# Altium integrated library Oscillator - MEMS.IntLib: 171 symbols (part 3 of 3)
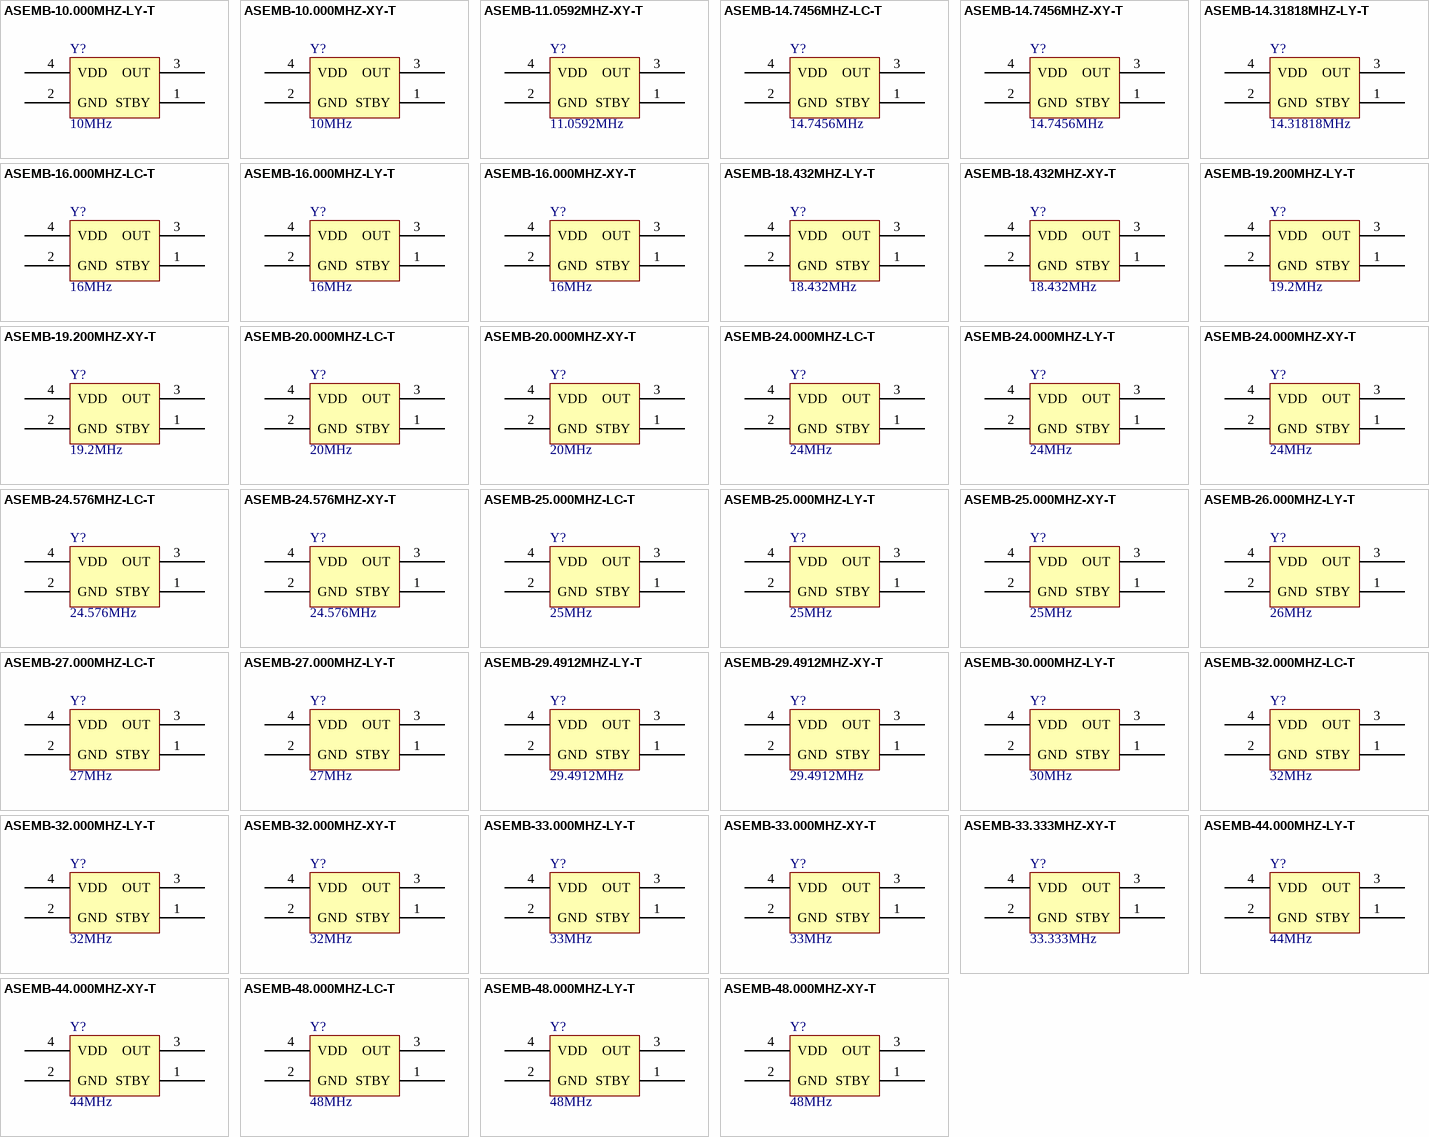
[diagram p6: symbols ASEMB-10.000MHZ-LY-T to ASEMB-48.000MHZ-XY-T]

## ASEMB-27.000MHZ-LY-T
designator Y?, comment 27MHz
OSC MEMS 27.000MHZ CMOS SMD; Part Number: ASEMB-27.000MHZ-LY-T; Manufacturer: Abracon LLC; Frequency Stability: 10ppm; PartId: 9046; Supplier 1: Digi-Key; Supplier Part Number 1: 535-11095-2-ND; ComponentLink1Description: Datasheet; ComponentLink1URL: http://www.abracon.com/Oscillators/ASEMB.pdf; ComponentLink2Description: Digi-Key Listing; ComponentLink2URL: https://www.digikey.com/product-detail/en/ASEMB-27.000MHZ-LY-T/535-11095-2-ND/2623901; Price: 1.2537; Type: MEMS (Silicon); Device Package: 4-SMD, No Lead (DFN, LCC); Series: Pure Silicon™ ASEMB; Frequency: 27MHz
footprint ABRACON ASEMB
pins: 1 STBY, 2 GND, 3 OUT, 4 VDD

## ASEMB-29.4912MHZ-LY-T
designator Y?, comment 29.4912MHz
OSC MEMS 29.4912MHZ CMOS SMD; Part Number: ASEMB-29.4912MHZ-LY-T; Manufacturer: Abracon LLC; Frequency Stability: 10ppm; PartId: 9041; Supplier 1: Digi-Key; Supplier Part Number 1: 535-11096-2-ND; ComponentLink1Description: Datasheet; ComponentLink1URL: http://www.abracon.com/Oscillators/ASEMB.pdf; ComponentLink2Description: Digi-Key Listing; ComponentLink2URL: https://www.digikey.com/product-detail/en/ASEMB-29.4912MHZ-LY-T/535-11096-2-ND/2623903; Price: 1.2537; Type: MEMS (Silicon); Device Package: 4-SMD, No Lead (DFN, LCC); Series: Pure Silicon™ ASEMB; Frequency: 29.4912MHz
footprint ABRACON ASEMB
pins: 1 STBY, 2 GND, 3 OUT, 4 VDD

## ASEMB-29.4912MHZ-XY-T
designator Y?, comment 29.4912MHz
OSC MEMS 29.4912MHZ CMOS SMD; Part Number: ASEMB-29.4912MHZ-XY-T; Manufacturer: Abracon LLC; Frequency Stability: 10ppm; PartId: 9066; Supplier 1: Digi-Key; Supplier Part Number 1: 535-11128-2-ND; ComponentLink1Description: Datasheet; ComponentLink1URL: http://www.abracon.com/Oscillators/ASEMB.pdf; ComponentLink2Description: Digi-Key Listing; ComponentLink2URL: https://www.digikey.com/product-detail/en/ASEMB-29.4912MHZ-XY-T/535-11128-2-ND/2623904; Price: 1.4012; Type: MEMS (Silicon); Device Package: 4-SMD, No Lead (DFN, LCC); Series: Pure Silicon™ ASEMB; Frequency: 29.4912MHz
footprint ABRACON ASEMB
pins: 1 STBY, 2 GND, 3 OUT, 4 VDD

## ASEMB-30.000MHZ-LY-T
designator Y?, comment 30MHz
OSC MEMS 30.000MHZ CMOS SMD; Part Number: ASEMB-30.000MHZ-LY-T; Manufacturer: Abracon LLC; Frequency Stability: 10ppm; PartId: 9042; Supplier 1: Digi-Key; Supplier Part Number 1: 535-11098-2-ND; ComponentLink1Description: Datasheet; ComponentLink1URL: http://www.abracon.com/Oscillators/ASEMB.pdf; ComponentLink2Description: Digi-Key Listing; ComponentLink2URL: https://www.digikey.com/product-detail/en/ASEMB-30.000MHZ-LY-T/535-11098-2-ND/2623907; Price: 1.2537; Type: MEMS (Silicon); Device Package: 4-SMD, No Lead (DFN, LCC); Series: Pure Silicon™ ASEMB; Frequency: 30MHz
footprint ABRACON ASEMB
pins: 1 STBY, 2 GND, 3 OUT, 4 VDD

## ASEMB-32.000MHZ-LC-T
designator Y?, comment 32MHz
OSC MEMS 32.000MHZ CMOS SMD; Part Number: ASEMB-32.000MHZ-LC-T; Manufacturer: Abracon LLC; Frequency Stability: 50ppm; PartId: 9038; Supplier 1: Digi-Key; Supplier Part Number 1: 535-11754-2-ND; ComponentLink1Description: Datasheet; ComponentLink1URL: http://www.abracon.com/Oscillators/ASEMB.pdf; ComponentLink2Description: Digi-Key Listing; ComponentLink2URL: https://www.digikey.com/product-detail/en/ASEMB-32.000MHZ-LC-T/535-11754-2-ND/2810016; Price: 0.69; Type: MEMS (Silicon); Device Package: 4-SMD, No Lead (DFN, LCC); Series: Pure Silicon™ ASEMB; Frequency: 32MHz
footprint ABRACON ASEMB
pins: 1 STBY, 2 GND, 3 OUT, 4 VDD

## ASEMB-32.000MHZ-LY-T
designator Y?, comment 32MHz
OSC MEMS 32.000MHZ CMOS SMD; Part Number: ASEMB-32.000MHZ-LY-T; Manufacturer: Abracon LLC; Frequency Stability: 10ppm; PartId: 9033; Supplier 1: Digi-Key; Supplier Part Number 1: 535-11099-2-ND; ComponentLink1Description: Datasheet; ComponentLink1URL: http://www.abracon.com/Oscillators/ASEMB.pdf; ComponentLink2Description: Digi-Key Listing; ComponentLink2URL: https://www.digikey.com/product-detail/en/ASEMB-32.000MHZ-LY-T/535-11099-2-ND/2623909; Price: 1.2537; Type: MEMS (Silicon); Device Package: 4-SMD, No Lead (DFN, LCC); Series: Pure Silicon™ ASEMB; Frequency: 32MHz
footprint ABRACON ASEMB
pins: 1 STBY, 2 GND, 3 OUT, 4 VDD

## ASEMB-32.000MHZ-XY-T
designator Y?, comment 32MHz
OSC MEMS 32.000MHZ CMOS SMD; Part Number: ASEMB-32.000MHZ-XY-T; Manufacturer: Abracon LLC; Frequency Stability: 10ppm; PartId: 9062; Supplier 1: Digi-Key; Supplier Part Number 1: 535-11131-2-ND; ComponentLink1Description: Datasheet; ComponentLink1URL: http://www.abracon.com/Oscillators/ASEMB.pdf; ComponentLink2Description: Digi-Key Listing; ComponentLink2URL: https://www.digikey.com/product-detail/en/ASEMB-32.000MHZ-XY-T/535-11131-2-ND/2623910; Price: 1.4012; Type: MEMS (Silicon); Device Package: 4-SMD, No Lead (DFN, LCC); Series: Pure Silicon™ ASEMB; Frequency: 32MHz
footprint ABRACON ASEMB
pins: 1 STBY, 2 GND, 3 OUT, 4 VDD

## ASEMB-33.000MHZ-LY-T
designator Y?, comment 33MHz
OSC MEMS 33.000MHZ CMOS SMD; Part Number: ASEMB-33.000MHZ-LY-T; Manufacturer: Abracon LLC; Frequency Stability: 10ppm; PartId: 9040; Supplier 1: Digi-Key; Supplier Part Number 1: 535-11100-2-ND; ComponentLink1Description: Datasheet; ComponentLink1URL: http://www.abracon.com/Oscillators/ASEMB.pdf; ComponentLink2Description: Digi-Key Listing; ComponentLink2URL: https://www.digikey.com/product-detail/en/ASEMB-33.000MHZ-LY-T/535-11100-2-ND/2623911; Price: 1.2537; Type: MEMS (Silicon); Device Package: 4-SMD, No Lead (DFN, LCC); Series: Pure Silicon™ ASEMB; Frequency: 33MHz
footprint ABRACON ASEMB
pins: 1 STBY, 2 GND, 3 OUT, 4 VDD

## ASEMB-33.000MHZ-XY-T
designator Y?, comment 33MHz
OSC MEMS 33.000MHZ CMOS SMD; Part Number: ASEMB-33.000MHZ-XY-T; Manufacturer: Abracon LLC; Frequency Stability: 10ppm; PartId: 9052; Supplier 1: Digi-Key; Supplier Part Number 1: 535-11132-2-ND; ComponentLink1Description: Datasheet; ComponentLink1URL: http://www.abracon.com/Oscillators/ASEMB.pdf; ComponentLink2Description: Digi-Key Listing; ComponentLink2URL: https://www.digikey.com/product-detail/en/ASEMB-33.000MHZ-XY-T/535-11132-2-ND/2623912; Price: 1.4012; Type: MEMS (Silicon); Device Package: 4-SMD, No Lead (DFN, LCC); Series: Pure Silicon™ ASEMB; Frequency: 33MHz
footprint ABRACON ASEMB
pins: 1 STBY, 2 GND, 3 OUT, 4 VDD

## ASEMB-33.333MHZ-XY-T
designator Y?, comment 33.333MHz
OSC MEMS 33.333MHZ CMOS SMD; Part Number: ASEMB-33.333MHZ-XY-T; Manufacturer: Abracon LLC; Frequency Stability: 10ppm; PartId: 9054; Supplier 1: Digi-Key; Supplier Part Number 1: 535-11111-2-ND; ComponentLink1Description: Datasheet; ComponentLink1URL: http://www.abracon.com/Oscillators/ASEMB.pdf; ComponentLink2Description: Digi-Key Listing; ComponentLink2URL: https://www.digikey.com/product-detail/en/ASEMB-33.333MHZ-XY-T/535-11111-2-ND/2623914; Price: 1.4012; Type: MEMS (Silicon); Device Package: 4-SMD, No Lead (DFN, LCC); Series: Pure Silicon™ ASEMB; Frequency: 33.333MHz
footprint ABRACON ASEMB
pins: 1 STBY, 2 GND, 3 OUT, 4 VDD

## ASEMB-44.000MHZ-LY-T
designator Y?, comment 44MHz
OSC MEMS 44.000MHZ CMOS SMD; Part Number: ASEMB-44.000MHZ-LY-T; Manufacturer: Abracon LLC; Frequency Stability: 10ppm; PartId: 9047; Supplier 1: Digi-Key; Supplier Part Number 1: 535-11102-2-ND; ComponentLink1Description: Datasheet; ComponentLink1URL: http://www.abracon.com/Oscillators/ASEMB.pdf; ComponentLink2Description: Digi-Key Listing; ComponentLink2URL: https://www.digikey.com/product-detail/en/ASEMB-44.000MHZ-LY-T/535-11102-2-ND/2623917; Price: 1.2537; Type: MEMS (Silicon); Device Package: 4-SMD, No Lead (DFN, LCC); Series: Pure Silicon™ ASEMB; Frequency: 44MHz
footprint ABRACON ASEMB
pins: 1 STBY, 2 GND, 3 OUT, 4 VDD

## ASEMB-44.000MHZ-XY-T
designator Y?, comment 44MHz
OSC MEMS 44.000MHZ CMOS SMD; Part Number: ASEMB-44.000MHZ-XY-T; Manufacturer: Abracon LLC; Frequency Stability: 10ppm; PartId: 9060; Supplier 1: Digi-Key; Supplier Part Number 1: 535-11134-2-ND; ComponentLink1Description: Datasheet; ComponentLink1URL: http://www.abracon.com/Oscillators/ASEMB.pdf; ComponentLink2Description: Digi-Key Listing; ComponentLink2URL: https://www.digikey.com/product-detail/en/ASEMB-44.000MHZ-XY-T/535-11134-2-ND/2623918; Price: 1.4012; Type: MEMS (Silicon); Device Package: 4-SMD, No Lead (DFN, LCC); Series: Pure Silicon™ ASEMB; Frequency: 44MHz
footprint ABRACON ASEMB
pins: 1 STBY, 2 GND, 3 OUT, 4 VDD

## ASEMB-48.000MHZ-LC-T
designator Y?, comment 48MHz
OSC MEMS 48.000MHZ CMOS SMD; Part Number: ASEMB-48.000MHZ-LC-T; Manufacturer: Abracon LLC; Frequency Stability: 50ppm; PartId: 9031; Supplier 1: Digi-Key; Supplier Part Number 1: 535-11757-2-ND; ComponentLink1Description: Datasheet; ComponentLink1URL: http://www.abracon.com/Oscillators/ASEMB.pdf; ComponentLink2Description: Digi-Key Listing; ComponentLink2URL: https://www.digikey.com/product-detail/en/ASEMB-48.000MHZ-LC-T/535-11757-2-ND/2810025; Price: 0.69; Type: MEMS (Silicon); Device Package: 4-SMD, No Lead (DFN, LCC); Series: Pure Silicon™ ASEMB; Frequency: 48MHz
footprint ABRACON ASEMB
pins: 1 STBY, 2 GND, 3 OUT, 4 VDD

## ASEMB-48.000MHZ-LY-T
designator Y?, comment 48MHz
OSC MEMS 48.000MHZ CMOS SMD; Part Number: ASEMB-48.000MHZ-LY-T; Manufacturer: Abracon LLC; Frequency Stability: 10ppm; PartId: 9051; Supplier 1: Digi-Key; Supplier Part Number 1: 535-11080-2-ND; ComponentLink1Description: Datasheet; ComponentLink1URL: http://www.abracon.com/Oscillators/ASEMB.pdf; ComponentLink2Description: Digi-Key Listing; ComponentLink2URL: https://www.digikey.com/product-detail/en/ASEMB-48.000MHZ-LY-T/535-11080-2-ND/2623919; Price: 1.2537; Type: MEMS (Silicon); Device Package: 4-SMD, No Lead (DFN, LCC); Series: Pure Silicon™ ASEMB; Frequency: 48MHz
footprint ABRACON ASEMB
pins: 1 STBY, 2 GND, 3 OUT, 4 VDD

## ASEMB-48.000MHZ-XY-T
designator Y?, comment 48MHz
OSC MEMS 48.000MHZ CMOS SMD; Part Number: ASEMB-48.000MHZ-XY-T; Manufacturer: Abracon LLC; Frequency Stability: 10ppm; PartId: 9061; Supplier 1: Digi-Key; Supplier Part Number 1: 535-11112-2-ND; ComponentLink1Description: Datasheet; ComponentLink1URL: http://www.abracon.com/Oscillators/ASEMB.pdf; ComponentLink2Description: Digi-Key Listing; ComponentLink2URL: https://www.digikey.com/product-detail/en/ASEMB-48.000MHZ-XY-T/535-11112-2-ND/2623920; Price: 1.4012; Type: MEMS (Silicon); Device Package: 4-SMD, No Lead (DFN, LCC); Series: Pure Silicon™ ASEMB; Frequency: 48MHz
footprint ABRACON ASEMB
pins: 1 STBY, 2 GND, 3 OUT, 4 VDD

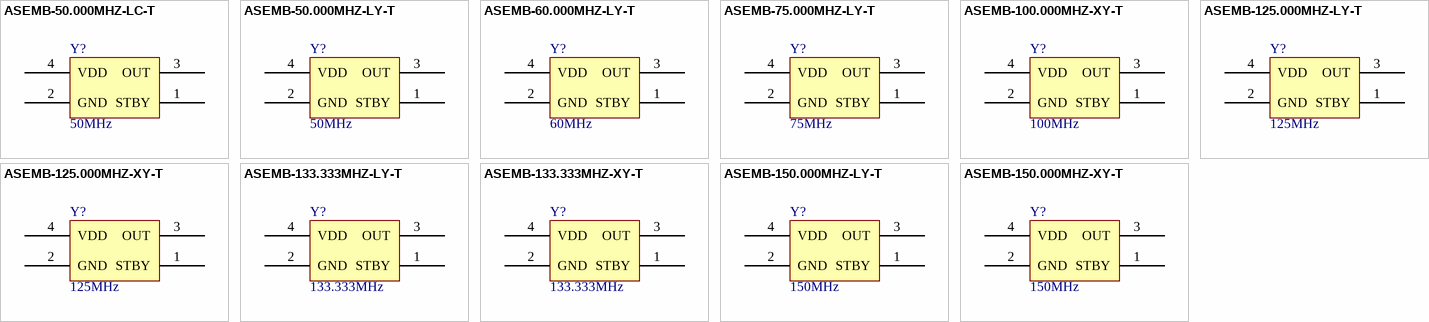
[diagram p4: symbols ASEMB-50.000MHZ-LC-T to ASEMB-150.000MHZ-XY-T]

## ASEMB-50.000MHZ-LC-T
designator Y?, comment 50MHz
OSC MEMS 50.000MHZ CMOS SMD; Part Number: ASEMB-50.000MHZ-LC-T; Manufacturer: Abracon LLC; Frequency Stability: 50ppm; PartId: 9014; Supplier 1: Digi-Key; Supplier Part Number 1: 535-11758-2-ND; ComponentLink1Description: Datasheet; ComponentLink1URL: http://www.abracon.com/Oscillators/ASEMB.pdf; ComponentLink2Description: Digi-Key Listing; ComponentLink2URL: https://www.digikey.com/product-detail/en/ASEMB-50.000MHZ-LC-T/535-11758-2-ND/2810028; Price: 0.69; Type: MEMS (Silicon); Device Package: 4-SMD, No Lead (DFN, LCC); Series: Pure Silicon™ ASEMB; Frequency: 50MHz
footprint ABRACON ASEMB
pins: 1 STBY, 2 GND, 3 OUT, 4 VDD

## ASEMB-50.000MHZ-LY-T
designator Y?, comment 50MHz
OSC MEMS 50.000MHZ CMOS SMD; Part Number: ASEMB-50.000MHZ-LY-T; Manufacturer: Abracon LLC; Frequency Stability: 10ppm; PartId: 9018; Supplier 1: Digi-Key; Supplier Part Number 1: 535-11103-2-ND; ComponentLink1Description: Datasheet; ComponentLink1URL: http://www.abracon.com/Oscillators/ASEMB.pdf; ComponentLink2Description: Digi-Key Listing; ComponentLink2URL: https://www.digikey.com/product-detail/en/ASEMB-50.000MHZ-LY-T/535-11103-2-ND/2623921; Price: 1.2537; Type: MEMS (Silicon); Device Package: 4-SMD, No Lead (DFN, LCC); Series: Pure Silicon™ ASEMB; Frequency: 50MHz
footprint ABRACON ASEMB
pins: 1 STBY, 2 GND, 3 OUT, 4 VDD

## ASEMB-60.000MHZ-LY-T
designator Y?, comment 60MHz
OSC MEMS 60.000MHZ CMOS SMD; Part Number: ASEMB-60.000MHZ-LY-T; Manufacturer: Abracon LLC; Frequency Stability: 10ppm; PartId: 9048; Supplier 1: Digi-Key; Supplier Part Number 1: 535-11104-2-ND; ComponentLink1Description: Datasheet; ComponentLink1URL: http://www.abracon.com/Oscillators/ASEMB.pdf; ComponentLink2Description: Digi-Key Listing; ComponentLink2URL: https://www.digikey.com/product-detail/en/ASEMB-60.000MHZ-LY-T/535-11104-2-ND/2623923; Price: 1.2537; Type: MEMS (Silicon); Device Package: 4-SMD, No Lead (DFN, LCC); Series: Pure Silicon™ ASEMB; Frequency: 60MHz
footprint ABRACON ASEMB
pins: 1 STBY, 2 GND, 3 OUT, 4 VDD

## ASEMB-75.000MHZ-LY-T
designator Y?, comment 75MHz
OSC MEMS 75.000MHZ CMOS SMD; Part Number: ASEMB-75.000MHZ-LY-T; Manufacturer: Abracon LLC; Frequency Stability: 10ppm; PartId: 9070; Supplier 1: Digi-Key; Supplier Part Number 1: 535-11081-2-ND; ComponentLink1Description: Datasheet; ComponentLink1URL: http://www.abracon.com/Oscillators/ASEMB.pdf; ComponentLink2Description: Digi-Key Listing; ComponentLink2URL: https://www.digikey.com/product-detail/en/ASEMB-75.000MHZ-LY-T/535-11081-2-ND/2623927; Price: 1.4012; Type: MEMS (Silicon); Device Package: 4-SMD, No Lead (DFN, LCC); Series: Pure Silicon™ ASEMB; Frequency: 75MHz
footprint ABRACON ASEMB
pins: 1 STBY, 2 GND, 3 OUT, 4 VDD

## ASEMB-100.000MHZ-XY-T
designator Y?, comment 100MHz
OSC MEMS 100.000MHZ CMOS SMD; Part Number: ASEMB-100.000MHZ-XY-T; Manufacturer: Abracon LLC; Frequency Stability: 10ppm; PartId: 9030; Supplier 1: Digi-Key; Supplier Part Number 1: 535-11115-2-ND; ComponentLink1Description: Datasheet; ComponentLink1URL: http://www.abracon.com/Oscillators/ASEMB.pdf; ComponentLink2Description: Digi-Key Listing; ComponentLink2URL: https://www.digikey.com/product-detail/en/ASEMB-100.000MHZ-XY-T/535-11115-2-ND/2623872; Price: 1.537; Type: MEMS (Silicon); Device Package: 4-SMD, No Lead (DFN, LCC); Series: Pure Silicon™ ASEMB; Frequency: 100MHz
footprint ABRACON ASEMB
pins: 1 STBY, 2 GND, 3 OUT, 4 VDD

## ASEMB-125.000MHZ-LY-T
designator Y?, comment 125MHz
OSC MEMS 125.000MHZ CMOS SMD; Part Number: ASEMB-125.000MHZ-LY-T; Manufacturer: Abracon LLC; Frequency Stability: 10ppm; PartId: 9029; Supplier 1: Digi-Key; Supplier Part Number 1: 535-11085-2-ND; ComponentLink1Description: Datasheet; ComponentLink1URL: http://www.abracon.com/Oscillators/ASEMB.pdf; ComponentLink2Description: Digi-Key Listing; ComponentLink2URL: https://www.digikey.com/product-detail/en/ASEMB-125.000MHZ-LY-T/535-11085-2-ND/2623877; Price: 1.4012; Type: MEMS (Silicon); Device Package: 4-SMD, No Lead (DFN, LCC); Series: Pure Silicon™ ASEMB; Frequency: 125MHz
footprint ABRACON ASEMB
pins: 1 STBY, 2 GND, 3 OUT, 4 VDD

## ASEMB-125.000MHZ-XY-T
designator Y?, comment 125MHz
OSC MEMS 125.000MHZ CMOS SMD; Part Number: ASEMB-125.000MHZ-XY-T; Manufacturer: Abracon LLC; Frequency Stability: 10ppm; PartId: 9035; Supplier 1: Digi-Key; Supplier Part Number 1: 535-11117-2-ND; ComponentLink1Description: Datasheet; ComponentLink1URL: http://www.abracon.com/Oscillators/ASEMB.pdf; ComponentLink2Description: Digi-Key Listing; ComponentLink2URL: https://www.digikey.com/product-detail/en/ASEMB-125.000MHZ-XY-T/535-11117-2-ND/2623878; Price: 1.537; Type: MEMS (Silicon); Device Package: 4-SMD, No Lead (DFN, LCC); Series: Pure Silicon™ ASEMB; Frequency: 125MHz
footprint ABRACON ASEMB
pins: 1 STBY, 2 GND, 3 OUT, 4 VDD

## ASEMB-133.333MHZ-LY-T
designator Y?, comment 133.333MHz
OSC MEMS 133.333MHZ CMOS SMD; Part Number: ASEMB-133.333MHZ-LY-T; Manufacturer: Abracon LLC; Frequency Stability: 10ppm; PartId: 9055; Supplier 1: Digi-Key; Supplier Part Number 1: 535-11109-2-ND; ComponentLink1Description: Datasheet; ComponentLink1URL: http://www.abracon.com/Oscillators/ASEMB.pdf; ComponentLink2Description: Digi-Key Listing; ComponentLink2URL: https://www.digikey.com/product-detail/en/ASEMB-133.333MHZ-LY-T/535-11109-2-ND/2623879; Price: 1.4012; Type: MEMS (Silicon); Device Package: 4-SMD, No Lead (DFN, LCC); Series: Pure Silicon™ ASEMB; Frequency: 133.333MHz
footprint ABRACON ASEMB
pins: 1 STBY, 2 GND, 3 OUT, 4 VDD

## ASEMB-133.333MHZ-XY-T
designator Y?, comment 133.333MHz
OSC MEMS 133.333MHZ CMOS SMD; Part Number: ASEMB-133.333MHZ-XY-T; Manufacturer: Abracon LLC; Frequency Stability: 10ppm; PartId: 9037; Supplier 1: Digi-Key; Supplier Part Number 1: 535-11141-2-ND; ComponentLink1Description: Datasheet; ComponentLink1URL: http://www.abracon.com/Oscillators/ASEMB.pdf; ComponentLink2Description: Digi-Key Listing; ComponentLink2URL: https://www.digikey.com/product-detail/en/ASEMB-133.333MHZ-XY-T/535-11141-2-ND/2623880; Price: 1.537; Type: MEMS (Silicon); Device Package: 4-SMD, No Lead (DFN, LCC); Series: Pure Silicon™ ASEMB; Frequency: 133.333MHz
footprint ABRACON ASEMB
pins: 1 STBY, 2 GND, 3 OUT, 4 VDD

## ASEMB-150.000MHZ-LY-T
designator Y?, comment 150MHz
OSC MEMS 150.000MHZ CMOS SMD; Part Number: ASEMB-150.000MHZ-LY-T; Manufacturer: Abracon LLC; Frequency Stability: 10ppm; PartId: 9053; Supplier 1: Digi-Key; Supplier Part Number 1: 535-11110-2-ND; ComponentLink1Description: Datasheet; ComponentLink1URL: http://www.abracon.com/Oscillators/ASEMB.pdf; ComponentLink2Description: Digi-Key Listing; ComponentLink2URL: https://www.digikey.com/product-detail/en/ASEMB-150.000MHZ-LY-T/535-11110-2-ND/2623885; Price: 1.4012; Type: MEMS (Silicon); Device Package: 4-SMD, No Lead (DFN, LCC); Series: Pure Silicon™ ASEMB; Frequency: 150MHz
footprint ABRACON ASEMB
pins: 1 STBY, 2 GND, 3 OUT, 4 VDD

## ASEMB-150.000MHZ-XY-T
designator Y?, comment 150MHz
OSC MEMS 150.000MHZ CMOS SMD; Part Number: ASEMB-150.000MHZ-XY-T; Manufacturer: Abracon LLC; Frequency Stability: 10ppm; PartId: 9036; Supplier 1: Digi-Key; Supplier Part Number 1: 535-11142-2-ND; ComponentLink1Description: Datasheet; ComponentLink1URL: http://www.abracon.com/Oscillators/ASEMB.pdf; ComponentLink2Description: Digi-Key Listing; ComponentLink2URL: https://www.digikey.com/product-detail/en/ASEMB-150.000MHZ-XY-T/535-11142-2-ND/2623886; Price: 1.537; Type: MEMS (Silicon); Device Package: 4-SMD, No Lead (DFN, LCC); Series: Pure Silicon™ ASEMB; Frequency: 150MHz
footprint ABRACON ASEMB
pins: 1 STBY, 2 GND, 3 OUT, 4 VDD